# Altium schematic symbol library RES,100R,1%,1W,MELF,0207.Schlib: 1 symbol
Pins are listed as number, name and electrical type; pins without a type are passive.

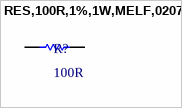
[diagram p0: symbol RES,100R,1%,1W,MELF,0207]

## RES,100R,1%,1W,MELF,0207
designator R?, comment 100R
100 Ohms ±1% 1W Chip Resistor MELF, 0207 Automotive AEC-Q200 Metal Film
pins: 1, 2